# EAGLE library part ST1S10PUR (library STMicroelectrionics)
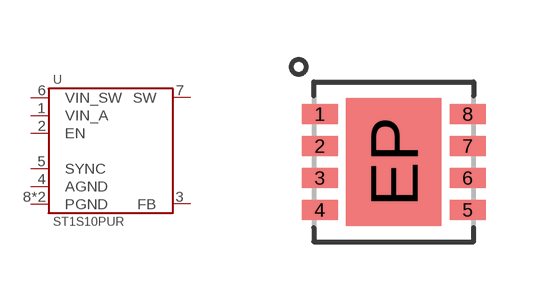
[diagram p2: symbol with the pads of DFN-8; footprint DFN-8]

Designator prefix U

## ST1S10PUR  [DFN-8]
1  VIN_A
2  EN
3  FB
4  AGND
5  SYNC
6  VIN_SW
7  SW
8  PGND
EP  PGND

## Footprint DFN-8 (pad centres in mm)
smd 0.9 x 0.5: 1 -1.85,1.2; 2 -1.85,0.4; 3 -1.85,-0.4; 4 -1.85,-1.2; 5 1.85,-1.2; 6 1.85,-0.4; 7 1.85,0.4; 8 1.85,1.2
smd 2.39 x 3.2: EP 0,0